# EAGLE library part IN-14 (library NixieTube)
IN-14: medium numeric frontview nixie tube
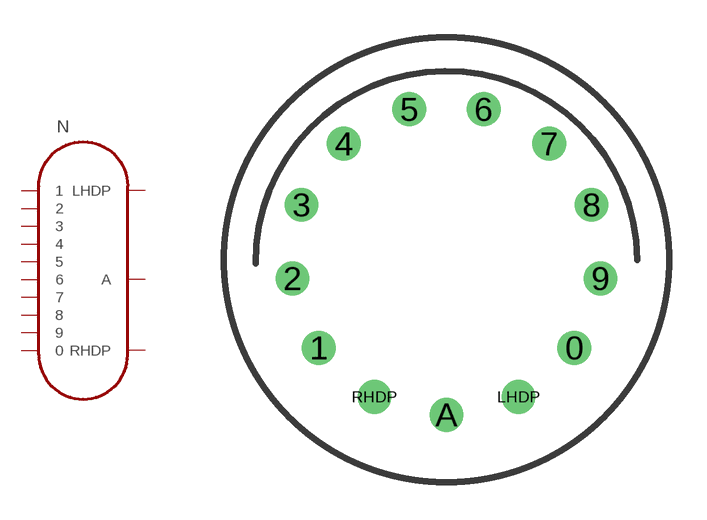
[diagram p14: symbol with the pads of IN-14; footprint IN-14]

Designator prefix N

## IN-14  [IN-14]
0  0
1  1
2  2
3  3
4  4
5  5
6  6
7  7
8  8
9  9
A  A
LHDP  LHDP
RHDP  RHDP

## Footprint IN-14 (pad centres in mm)
drill 0.84: 0 5.094,-3.516; 1 -5.094,-3.516; 2 -6.145,-0.746; 3 -5.788,2.195; 4 -4.105,4.633; 5 -1.481,6.01; 6 1.481,6.01; 7 4.105,4.633; 8 5.788,2.195; 9 6.145,-0.746; A 0,-6.19; LHDP 2.877,-5.481; RHDP -2.877,-5.481